# Altium footprint library fci-term-block.PcbLib: 2 footprints
Each footprint in its own frame and in the unit in brackets; x right, y up, seen from the top. Pads: shape width x height; smd on the part's side, far side on the other; paste and mask are expansions set on the pad; w line width, h text height; cw(c..) or ccw(c..) is an arc to the next point about the centre after c.
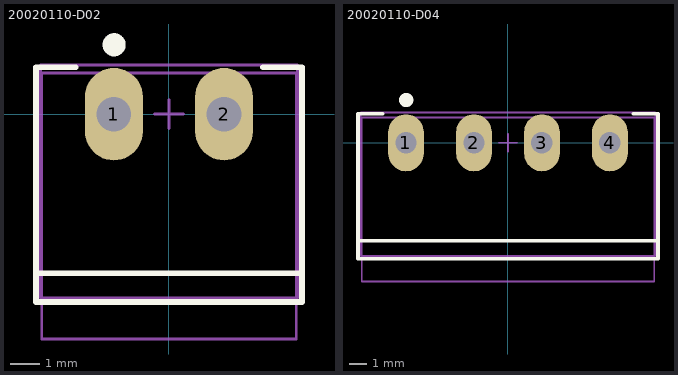
[diagram p0: the footprints below, top view; thin cyan lines are the x and y axes]

## 20020110-D02 [mm] "2 Pos, Terminal Block, Header Assembly, 90dg, 3.5mm Pitch"
height 7.2
pads (2):
  oval 2x3.2 hole 1.2: 1(-1.905,0) 2(1.905,0)
Top Overlay:
  circle w0.4: c-1.895,2.4 r0.2
  lines w0.2: -4.595,-5.5 4.6,-5.5 ; -3.22,1.625 -4.595,1.625 -4.595,-6.5 4.6,-6.5 4.6,1.625 3.25,1.625
Mechanical 13:
  lines w0.1: -0.5,0 0.5,0 ; 0,-0.5 0,0.5 ; -4.4,-7.775 -4.4,1.425 4.405,1.425 4.405,-7.775 -4.4,-7.775
Mechanical 15:
  lines w0.1: -4.445,-6.35 4.45,-6.35 4.45,1.7 -4.445,1.7 -4.445,-6.35
  text ".Designator" at -2.25,-3.45 h0.8
3D body: height 7.42, standoff -3.71, extent -4.405,-7.775 4.405,1.425

## 20020110-D04 [mm] "4 Pos, Terminal Block, Header Assembly, 90dg, 3.81mm Pitch"
height 7.2
pads (4):
  oval 2x3.2 hole 1.2: 1(-5.715,0) 2(-1.905,0) 3(1.905,0) 4(5.715,0)
Top Overlay:
  circle w0.4: c-5.705,2.4 r0.2
  lines w0.2: -8.405,-5.5 8.41,-5.5 ; -7.03,1.625 -8.405,1.625 -8.405,-6.5 8.41,-6.5 8.41,1.625 7.015,1.625
Mechanical 13:
  lines w0.1: -0.5,0 0.5,0 ; 0,-0.5 0,0.5 ; -8.2,-7.775 -8.2,1.425 8.2,1.425 8.2,-7.775 -8.2,-7.775
Mechanical 15:
  lines w0.1: -8.255,-6.35 -8.255,1.7 8.26,1.7 8.26,-6.35 -8.255,-6.35
  text ".Designator" at -2.375,-3.55 h0.8
3D body: height 7.42, standoff -3.71, extent -8.215,-7.775 8.215,1.425